# Altium footprint library IIS2ICLX.PcbLib: 1 footprints
Each footprint in its own frame and in the unit in brackets; x right, y up, seen from the top. Pads: shape width x height; smd on the part's side, far side on the other; paste and mask are expansions set on the pad; w line width, h text height; cw(c..) or ccw(c..) is an arc to the next point about the centre after c.
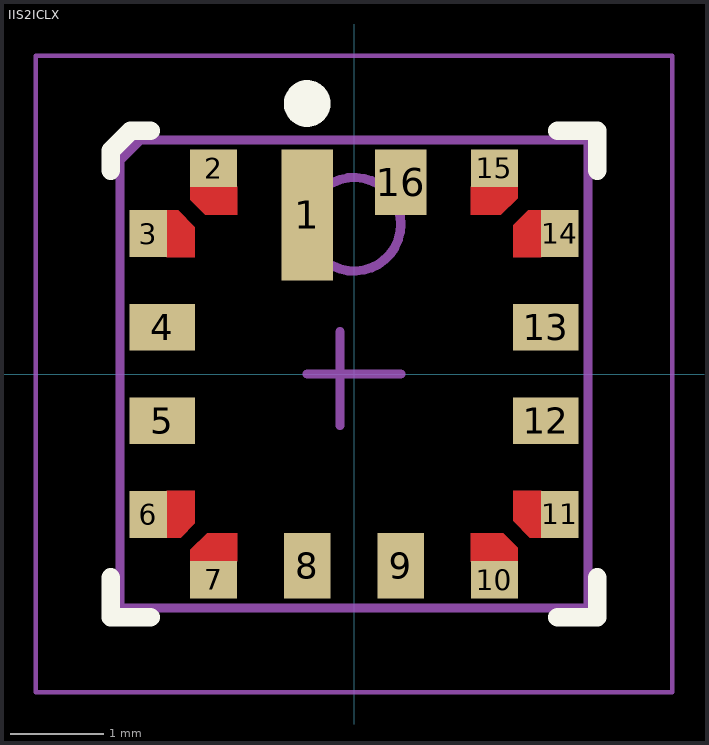
[diagram p0: the footprint, top view; thin cyan lines are the x and y axes]

## IIS2ICLX [mm] "LCC, 16-Pins, Body 5.00x5.00mmx1.70mm, Pitch 1.00mm, IPC Medium Density"
height 1.7
pads (16):
  rect 0.55x1.4 smd: 1(-0.5,1.7)
  rect 0.5x0.4 smd: 2(-1.5,2.2) 7(-1.5,-2.2) 10(1.5,-2.2) 15(1.5,2.2)
  rect 0.4x0.5 smd: 3(-2.2,1.5) 6(-2.2,-1.5) 11(2.2,-1.5) 14(2.2,1.5)
  rect 0.7x0.5 smd: 4(-2.05,0.5) 5(-2.05,-0.5) 12(2.05,-0.5) 13(2.05,0.5)
  rect 0.5x0.7 smd: 8(-0.5,-2.05) 9(0.5,-2.05)
  rect 0.55x0.7 smd: 16(0.5,2.05)
Top Layer:
  region: -2,-1.25 -1.7,-1.25 -1.7,-1.597 -1.853,-1.75 -2,-1.75
  region: 2,-1.25 1.7,-1.25 1.7,-1.57 1.88,-1.75 2,-1.75
  region: 1.25,2 1.25,1.7 1.57,1.7 1.75,1.88 1.75,2
  region: -1.25,2 -1.25,1.7 -1.59,1.7 -1.75,1.86 -1.75,2
  region: -2,1.25 -1.7,1.25 -1.7,1.57 -1.88,1.75 -2,1.75
  region: 1.25,-2.005 1.25,-1.7 1.592,-1.7 1.75,-1.858 1.75,-2.005
  region: 2,1.25 1.7,1.25 1.7,1.59 1.86,1.75 2,1.75
  region: -1.25,-2 -1.25,-1.7 -1.57,-1.7 -1.75,-1.88 -1.75,-2
Top Overlay:
  circle w0.25: c-0.5,2.89 r0.125
  lines w0.2: -2.6,-2.175 -2.6,-2.6 -2.175,-2.6 ; -2.6,2.175 -2.6,2.388 -2.388,2.6 -2.175,2.6 ; 2.175,-2.6 2.6,-2.6 2.6,-2.175 ; 2.175,2.6 2.6,2.6 2.6,2.175
Mechanical 13:
  circle w0.1: c0,1.6 r0.5
  lines w0.1: -2.5,-2.5 -2.5,2.288 -2.288,2.5 2.5,2.5 2.5,-2.5 -2.5,-2.5
Mechanical 15:
  lines w0.05: -3.4,-3.4 -3.4,3.4 3.4,3.4 3.4,-3.4 -3.4,-3.4
  lines w0.1: -0.5,0 0.5,0 ; -0.15,-0.55 -0.15,0.45
3D body "IIS2ICLX.step": height 2.23, standoff 0, extent -2.5,-2.5 2.5,2.5